# Altium schematic symbol library 2N7002K-7.Schlib: 1 symbol
Pins are listed as number, name and electrical type; pins without a type are passive.

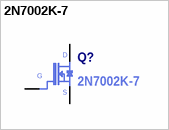
[diagram p0: symbol 2N7002K-7]

## 2N7002K-7
designator Q?
Manufacturer Part Number: 2N7002K-7
pins: 1 G, 2 S, 3 D